# EAGLE library part 0904289008 (library con-binder)
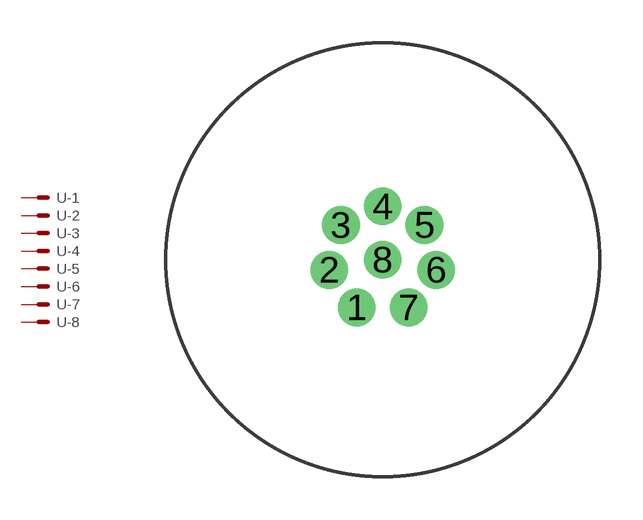
[diagram p0: symbol with the pads of 0904289008; footprint 0904289008]

Designator prefix -; gates -1=PIN -2=PIN -3=PIN -4=PIN -5=PIN -6=PIN -7=PIN -8=PIN

## 09042890080904289008  [0904289008]
1  -1:S  pas
2  -2:S  pas
3  -3:S  pas
4  -4:S  pas
5  -5:S  pas
6  -6:S  pas
7  -7:S  pas
8  -8:S  pas

## Footprint 0904289008 (pad centres in mm)
drill 0.8 pad 1.168: 1 -0.9,-1.65; 2 -1.85,-0.35; 3 -1.45,1.2; 4 0,1.85; 5 1.45,1.2; 6 1.85,-0.35; 7 0.9,-1.65
drill 0.8 pad 1.27: 8 0,0